# EAGLE library part MCP2551 (library HyTechDevices)
MCP2551 Can Transciever Datasheet <https://www.mouser.com/datasheet/2/268/20001667G-1115479.pdf>
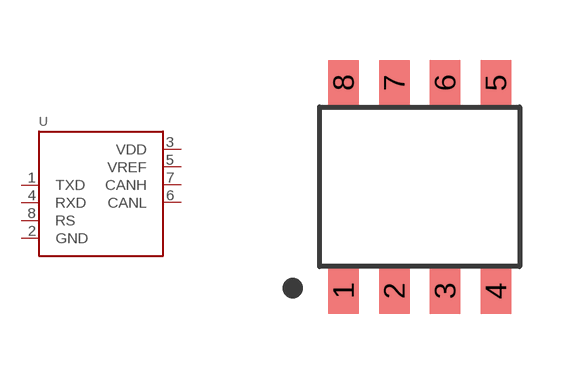
[diagram p76: symbol with the pads of SOIC-08(NARROW,0.15"); footprint SOIC-08(NARROW,0.15")]

Designator prefix U

## MCP2551 (DKPN: MCP2551-I/SN-ND; MANUFACTURER: Microchip Technology; MOPN: 579-MCP2551-I/SN; MPN: MCP2551-I/SN)  [SOIC-08(NARROW,0.15")]
1  TXD  in
2  GND  pwr
3  VDD  pwr
4  RXD  out
5  VREF  pwr
6  CANL
7  CANH
8  RS  pas

## Footprint SOIC-08(NARROW,0.15") (pad centres in mm)
SOIC-8 Datasheet <https://www.analog.com/media/en/package-pcb-resources/package/pkg_pdf/ltc-legacy-soic/05081610_G_SO8.pdf>
smd 0.762 x 1.143: 1 -1.905,-2.603; 2 -0.635,-2.603; 3 0.635,-2.603; 4 1.905,-2.603; 5 1.905,2.603; 6 0.635,2.603; 7 -0.635,2.603; 8 -1.905,2.603